# EAGLE library part HK-GT2B (library RoboJackets-ICs)
Radio Receiver 2.4 GHz
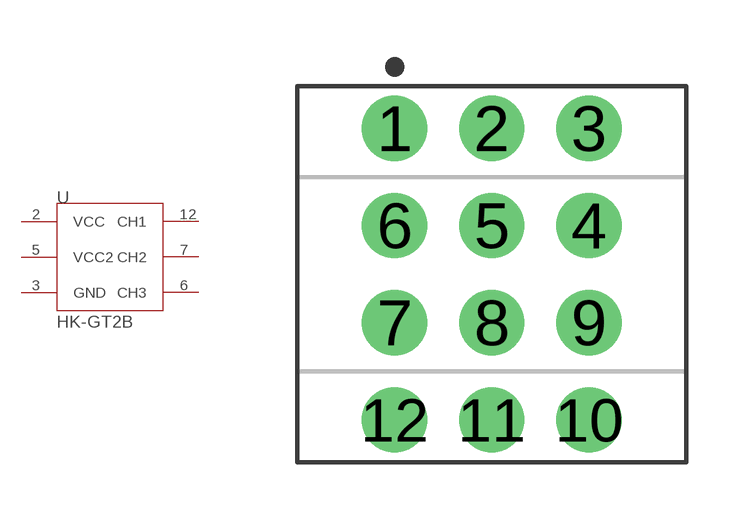
[diagram p9: symbol with the pads of HDRVR12W64P254_4X3_1016X508X254B; footprint HDRVR12W64P254_4X3_1016X508X254B]

Designator prefix -

## HK-GT2B  [HDRVR12W64P254_4X3_1016X508X254B]
2  VCC  pwr
3  GND
5  VCC2  out
6  CH3  out
7  CH2  out
12  CH1  out

## Footprint HDRVR12W64P254_4X3_1016X508X254B (pad centres in mm)
Four-row, 12-pin Receptacle Header (Female) Straight, 2.54 mm (0.10 in) row pitch, 2.54 mm (0.10 in) col pitch, 2.54 mm insulator length, 10.16 X 5.08 X 2.54 mm body Four-row (4X3), 12-pin Receptacle Header (Female) Straight package with 2.54 mm (0.10 in) row pitch, 2.54 mm (0.10 in) col pitch, 0.64 mm lead width, 3.00 mm tail length and 2.54 mm insulator length with overall size 10.16 X 5.08 X 2.54 mm, pin pattern - clockwise from top left
drill 1.105 pad 1.705: 1 0,0; 2 2.54,0; 3 5.08,0; 4 5.08,-2.54; 5 2.54,-2.54; 6 0,-2.54; 7 0,-5.08; 8 2.54,-5.08; 9 5.08,-5.08; 10 5.08,-7.62; 11 2.54,-7.62; 12 0,-7.62